# Altium schematic symbol library 2NM12000C33YC.SchLib: 1 symbol
Pins are listed as number, name and electrical type; pins without a type are passive.

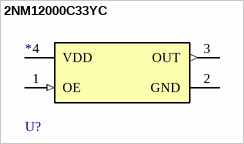
[diagram p0: symbol 2NM12000C33YC]

## 2NM12000C33YC
designator U?
pins: 1 OE (in), 2 GND (power), 3 OUT (out), 4 VDD (power)